# Altium schematic symbol library REB215_XPRO_Extension_Board.SCHLIB: 49 symbols
Pins are listed as number, name and electrical type; pins without a type are passive.

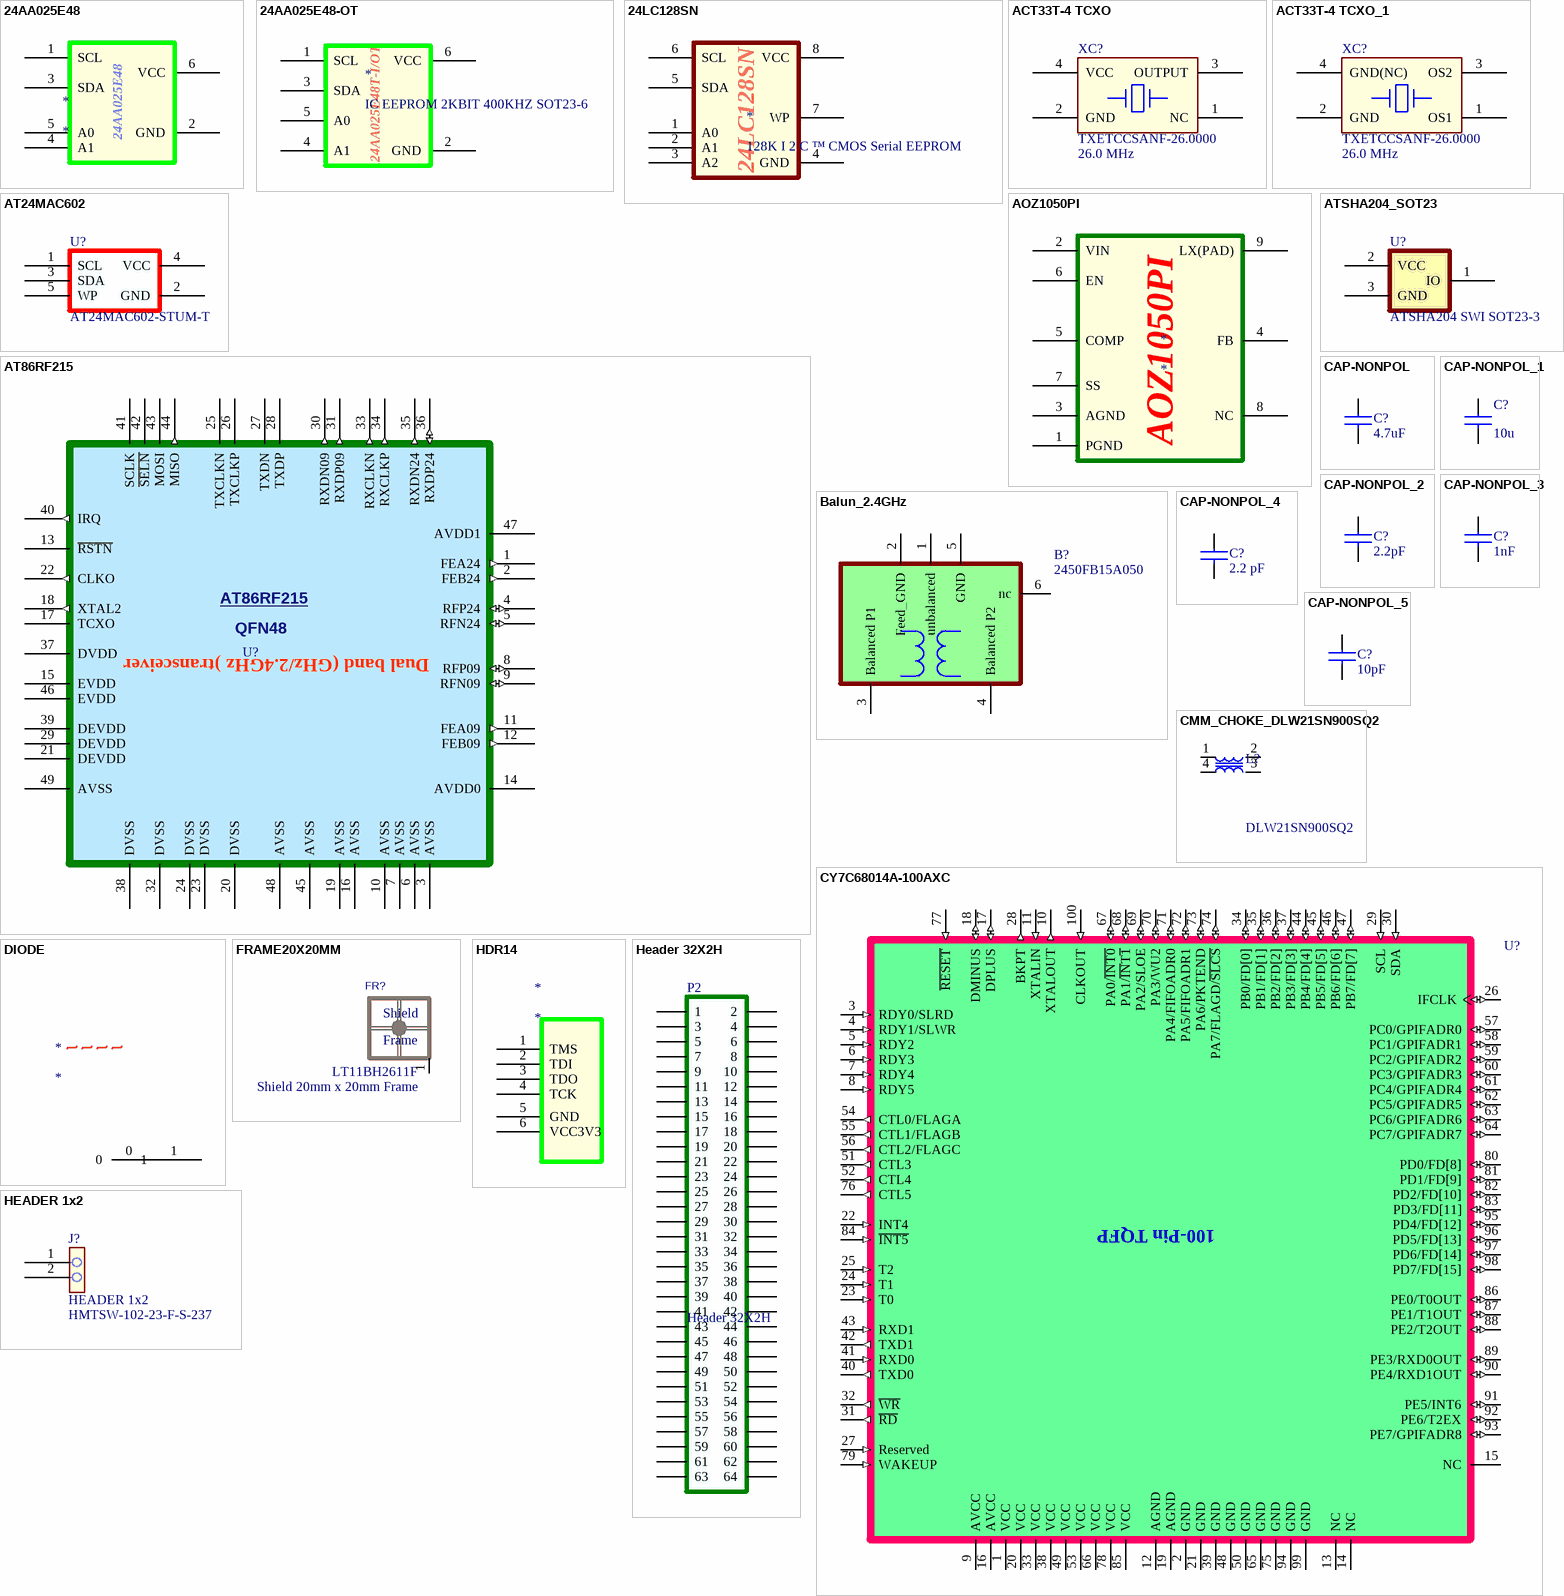
[diagram p0: symbols 24AA025E48 to Header 32X2H]

## 24AA025E48
designator *
pins: 1 SCL, 2 GND, 3 SDA, 4 A1, 5 A0, 6 VCC

## 24AA025E48-OT
designator *, comment IC EEPROM 2KBIT 400KHZ SOT23-6
pins: 1 SCL, 2 GND, 3 SDA, 4 A1, 5 A0, 6 VCC
text: 24AA025E48T-I/OT

## 24LC128SN
designator *, comment 128K I 2 C ™ CMOS Serial EEPROM
pins: 1 A0, 2 A1, 3 A2, 4 GND, 5 SDA, 6 SCL, 7 WP, 8 VCC

## ACT33T-4 TCXO
designator XC?, comment TXETCCSANF-26.0000  value 26.0 MHz
26MHz TCXO, 2.8 ~ 3.3V, Clipped sine wave 10KOhm/10pF, 3.2 x 2.5 mm SMD; PartGroup: Frequency devices,Crystals,SMD; Manufacturer: Taiway Electronics; AN: A07-0087; Tolerance: +/-2ppm; TemperatureRange: -20  to  +70Â°C; ComponentStatus: 'Active (verified)'; MPN: TXETCCSANF-26.0000; FootprintStatus: 'Active (Verified)'
footprint AP7-00060
pins: 1 NC, 2 GND, 3 OUTPUT, 4 VCC

## ACT33T-4 TCXO_1
designator XC?, comment TXETCCSANF-26.0000  value 26.0 MHz
26MHz TCXO, 2.8 ~ 3.3V, Clipped sine wave 10KOhm/10pF, 3.2 x 2.5 mm SMD; PartGroup: Frequency devices,Crystals,SMD; Manufacturer: Taiway Electronics; AN: A07-0087; Tolerance: +/-2ppm; TemperatureRange: -20  to  +70Â°C; ComponentStatus: 'Active (verified)'; MPN: TXETCCSANF-26.0000; FootprintStatus: 'Active (Verified)'
footprint AP7-00060
pins: 1 OS1, 2 GND, 3 OS2, 4 GND(NC)

## AOZ1050PI
designator *
pins: 1 PGND, 2 VIN, 3 AGND, 4 FB, 5 COMP, 6 EN, 7 SS, 8 NC, 9 LX(PAD)

## AT24MAC602
designator U?  value AT24MAC602-STUM-T  (hidden comment: AT24MAC602)
IC EEPROM 2KBIT 1MHz, 1.7V to 5.5V, SOT23-5; PartGroup: Integrated Circuits,Memory,EEPROM; Manufacturer: ATMEL; AN: A06-0871; ComponentStatus: 'Active (verified)'; Status: *; Design comment: *; Verified by: *; Verified date: *; Height: 1.10000002384186; MPN: AT24MAC602-STUM-T; FootprintStatus: 'Active (Verified)'
footprint AP6-00087
footprint AP6-00014
pins: 1 SCL, 2 GND, 3 SDA, 4 VCC, 5 WP

## AT86RF215
designator U?, comment 48 lead QFN package  (value not drawn)
Sub-1GHz/2.4GHz Transceiver; PartGroup: Integrated Circuits,Interface ICs,RF; Manufacturer: ATMEL; AN: A06-0976; Value: AT86RF215-ZU; TemperatureRange: -40Â°C to +85Â°C; ComponentStatus: 'Active (verified)'; MPN: AT86RF215-ZU; FootprintStatus: 'New (Not verified)'
footprint AP6-00345
pins: 1 FEA24 (out), 2 FEB24 (out), 3 AVSS (power), 4 RFP24 (io), 5 RFN24 (io), 6 AVSS (power), 7 AVSS (power), 8 RFP09 (io), 9 RFN09 (io), 10 AVSS (power), 11 FEA09 (out), 12 FEB09 (out), 13 ~{RSTN}, 14 AVDD0 (power), 15 EVDD (power), 16 AVSS (power), 17 TCXO, 18 XTAL2 (out), 19 AVSS (power), 20 DVSS (power), 21 DEVDD (power), 22 CLKO (out), 23 DVSS (power), 24 DVSS (power), 25 TXCLKN, 26 TXCLKP, 27 TXDN, 28 TXDP, 29 DEVDD (power), 30 RXDN09 (out), 31 RXDP09 (out), 32 DVSS (power), 33 RXCLKN (out), 34 RXCLKP (out), 35 RXDN24 (out), 36 RXDP24 (io), 37 DVDD (power), 38 DVSS (power), 39 DEVDD (power), 40 IRQ (out), 41 SCLK, 42 ~{SELN}, 43 MOSI, 44 MISO (out), 45 AVSS (power), 46 EVDD (power), 47 AVDD1 (power), 48 AVSS (power), 49 AVSS (power)
text: QFN48; Dual band (GHz/2.4GHz )transceiver

## ATSHA204_SOT23
designator U?, comment value ATSHA204 SWI SOT23-3  (hidden comment: By request from the Crypto team all new Xplained Pro designs should use the UDFN8 version of the chip instead. See A06-1276)
ATSHA204 with 1-wire interface and SOT23-3 package; PartGroup: Integrated Circuits,Special function,Encryption; Manufacturer: ATMEL; MPN: ATSHA204A-STUCZ-T; AN: A06-0571; TemperatureRange: -40Â°C to +85Â°C; ComponentStatus: 'Not for use in new designs'; Status: New; Height: 1.12000000476837; FootprintStatus: 'Active (Verified)'
footprint AP4-00018
pins: 1 IO, 2 VCC, 3 GND

## Balun_2.4GHz
designator B?  value 2450FB15A050  (hidden comment: Balun_2.4GHz)
2.45 GHz Balun / Filter Combination; PartGroup: Inductors,RF,Other RF; Manufacturer: Johanson Technology; AN: A03-0130; TemperatureRange: -40 to +85; ComponentStatus: 'Active (verified)'; Height: 1; MPN: 2450FB15A050; FootprintStatus: 'Active (Verified)'
footprint AP3-00060
pins: 1 unbalanced "50Ohm single ended", 2 Feed_GND (power) "Ground", 3 Balanced P1 "balanced port 1", 4 Balanced P2 "Balanced Port 2", 5 GND (power), 6 nc "not connected"

## CAP-NONPOL
designator C?, comment value 4.7uF  (hidden comment: Recommended by Escatec. No datasheet available yet.)
Ceramic capacitor, SMD 0402, X5R, 6.3V, +/-20% (de33687); PartGroup: Capacitors,Ceramic,SMD 0402; Manufacturer: Murata; MPN: GRM155R60J475ME87D; AN: A01-0347; Tolerance: +-20%; TemperatureRange: -55°C to +85°C; ComponentStatus: 'Active (verified)'; Status: Active; Verified by: Lars Helge Mo; Verified date: 2005-12-15; Height: 0,5; FootprintStatus: 'Active (Verified)'
footprint AP1-00001
pins: 1, 2

## CAP-NONPOL_1
designator C?, comment value 10u  (hidden comment: CAP-NONPOL)
Ceramic capacitor, SMD 1206, X5R, 6.3V, ±10%; PartGroup: Capacitors,Ceramic,SMD 1206; Manufacturer: Murata; MPN: GRM319R60J106KE19; AN: A01-0276; TemperatureRange: -55 to +125; ComponentStatus: 'Active (verified)'; Status: Active; Verified by: Lars Helge Mo; Verified date: 2005-12-15; Tolerance: ±10%; Height: 0.850000023841858; FootprintStatus: 'Active (Verified)'
footprint AP1-00026
pins: 1, 2

## CAP-NONPOL_2
designator C?, comment value 2.2pF  (hidden comment: CAP-NONPOL)
Ceramic capacitor, SMD 0402, NP0, 50V, +/-0.25pF (de23847); PartGroup: Capacitors,Ceramic,SMD 0402; Manufacturer: Murata; MPN: GRM1555C1H2R2CZ01D; AN: A01-0351; Tolerance: 0,25pF; TemperatureRange: -55ï¿½C to +125ï¿½C; ComponentStatus: 'Active (verified)'; Status: Active; Verified by: Lars Helge Mo; Verified date: 2005-12-15; FootprintStatus: 'Active (Verified)'
footprint AP1-00038
pins: 1, 2

## CAP-NONPOL_3
designator C?, comment value 1nF  (hidden comment: CAP-NONPOL)
Ceramic capacitor, SMD 0201, X7R, 10V, +/-10%; PartGroup: Capacitors,Ceramic,SMD 0201; Manufacturer: Johanson Technology; MPN: 100R05W102KV4; AN: A01-0577; ComponentStatus: 'New (not verified)'; Status: Active; Verified by: Lars Helge Mo; Verified date: 2005-12-15; FootprintStatus: 'Active (Verified)'
footprint AP1-00035
pins: 1, 2

## CAP-NONPOL_4
designator C?, comment value 2.2 pF  (hidden comment: C0G, NP0)
CAP CER 2.2PF 6.3V NP0 0201; PartGroup: Capacitors,Ceramic,SMD 0201; Manufacturer: Kemet; MPN: CBR02C229C9GAC; AN: A01-0472; Tolerance: ±0.25pF; TemperatureRange: -55°C ~ 125°C; ComponentStatus: 'Active (verified)'; Status: Active; Verified by: Lars Helge Mo; Verified date: 2005-12-15; Height: 0.300000011920929; FootprintStatus: 'Active (Verified)'
footprint AP1-00032
footprint AP1-00035 (0201_SMD)
pins: 1, 2

## CAP-NONPOL_5
designator C?, comment value 10pF  (hidden comment: High Temp version)
CAP CER 10PF 25V Â±.25pf ( and Â±.30ppm/ degree C of temp variation) NP0 0201; PartGroup: Capacitors,Ceramic,SMD 0201; Manufacturer: tdk; MPN: C0603C0G1E100C; AN: A01-0581; Tolerance: Â±20ppm to Â±50ppm; TemperatureRange: -55CÂº ~ +125ÂºC; ComponentStatus: 'Active (verified)'; Status: Active; Verified by: Lars Helge Mo; Verified date: 2005-12-15; FootprintStatus: 'Active (Verified)'
footprint AP1-00032
pins: 1, 2

## CMM_CHOKE_DLW21SN900SQ2
designator L?, comment value DLW21SN900SQ2  (hidden comment: Common Mode Choke 0805)
Sub-1GHz Balun; PartGroup: Inductors,RF,Other RF; Manufacturer: Murata; AN: A03-0131; ComponentStatus: 'Active (verified)'; Common ode hoke: DLW21SN900SQ2; MPN: DLW21SN900SQ2; FootprintStatus: 'New (Not verified)'
footprint AP3-00081
pins: 1, 2, 3, 4
1 alternate drawing of the same symbol

## CY7C68014A-100AXC
designator U?
EZ-USB FX2LP USB Microcontroller Ideal for Battery Powered Applications,16K RAM, 40 I/Os, 100-Pin TQFP, Pb-Free, Commercial Grade; Published: 16-Dec-2005; LatestRevisionDate: 13-Apr-2006; LatestRevisionNote: IPC-7351 Footprint Added.; DatasheetVersion: rev.J, Sep-2005; PackageVersion: Feb-2005; PackageReference: A101; Publisher: Altium Limited; PackageDescription: 100-Pin Thin Plastic Quad Flat Pack Rectangular 0.65 mm Pitch; ComponentLink1Description: Manufacturer Link; ComponentLink1URL: http://www.cypress.com/portal/server.pt; ComponentLink2Description: Datasheet; ComponentLink2URL: http://www.cypress.com/portal/server.pt/gateway/PTARGS_0_2_1524_209_259_43/http%3B/sjapp20.mis.cypress.com%3B7001/publishedcontent/publish/design_resources/datasheets/contents/cy7c68014a_5.pdf
footprint A101_N (Thin QFP, 100-Leads, Body 20x14mm, Pitch 0.65mm, IPC Medium Density)
footprint A101_L (Thin QFP, 100-Leads, Body 20x14mm, Pitch 0.65mm, IPC High Density)
footprint A101_M (Thin QFP, 100-Leads, Body 20x14mm, Pitch 0.65mm, IPC Low Density)
pins: 1 VCC (power), 2 GND (power), 3 RDY0/SLRD (in), 4 RDY1/SLWR (in), 5 RDY2 (in), 6 RDY3 (in), 7 RDY4 (in), 8 RDY5 (in), 9 AVCC (power), 10 XTALOUT (out), 11 XTALIN (in), 12 AGND (power), 13 NC, 14 NC, 15 NC, 16 AVCC (power), 17 DPLUS (io), 18 DMINUS (io), 19 AGND (power), 20 VCC (power), 21 GND (power), 22 INT4 (in), 23 T0 (in), 24 T1 (in), 25 T2 (in), 26 IFCLK (io), 27 Reserved (in), 28 BKPT (out), 29 SCL (in), 30 SDA (in), 31 ~{RD} (out), 32 ~{WR} (out), 33 VCC (power), 34 PB0/FD[0] (io) "Port B", 35 PB1/FD[1] (io) "Port B", 36 PB2/FD[2] (io) "Port B", 37 PB3/FD[3] (io) "Port B", 38 VCC (power), 39 GND (power), 40 TXD0 (out), 41 RXD0 (in), 42 TXD1 (out), 43 RXD1 (in), 44 PB4/FD[4] (io) "Port B", 45 PB5/FD[5] (io) "Port B", 46 PB6/FD[6] (io) "Port B", 47 PB7/FD[7] (io) "Port B", 48 GND (power), 49 VCC (power), 50 GND (power), 51 CTL3 (out), 52 CTL4 (out), 53 VCC (power), 54 CTL0/FLAGA (out), 55 CTL1/FLAGB (out), 56 CTL2/FLAGC (out), 57 PC0/GPIFADR0 (io) "Port C", 58 PC1/GPIFADR1 (io) "Port C", 59 PC2/GPIFADR2 (io) "Port C", 60 PC3/GPIFADR3 (io) "Port C", 61 PC4/GPIFADR4 (io) "Port C", 62 PC5/GPIFADR5 (io) "Port C", 63 PC6/GPIFADR6 (io) "Port C", 64 PC7/GPIFADR7 (io) "Port C", 65 GND (power), 66 VCC (power), 67 PA0/~{INT0} (io) "Port A", 68 PA1/~{IN}T~{1} (io) "Port A", 69 PA2/SLOE (io) "Port A", 70 PA3/WU2 (io) "Port A", 71 PA4/FIFOADR0 (io) "Port A", 72 PA5/FIFOADR1 (io) "Port A", 73 PA6/PKTEND (io) "Port A", 74 PA7/FLAGD/~{SLCS} (io) "Port A", 75 GND (power), 76 CTL5 (out), 77 ~{RESET} (in), 78 VCC (power), 79 WAKEUP (in), 80 PD0/FD[8] (io) "Port D", 81 PD1/FD[9] (io) "Port D", 82 PD2/FD[10] (io) "Port D", 83 PD3/FD[11] (io) "Port D", 84 ~{INT5} (in), 85 VCC (power), 86 PE0/T0OUT (io) "Port E", 87 PE1/T1OUT (io) "Port E", 88 PE2/T2OUT (io) "Port E", 89 PE3/RXD0OUT (io) "Port E", 90 PE4/RXD1OUT (io) "Port E", 91 PE5/INT6 (io) "Port E", 92 PE6/T2EX (io) "Port E", 93 PE7/GPIFADR8 (io) "Port E", 94 GND (power), 95 PD4/FD[12] (io) "Port D", 96 PD5/FD[13] (io) "Port D", 97 PD6/FD[14] (io) "Port D", 98 PD7/FD[15] (io) "Port D", 99 GND (power), 100 CLKOUT (in)
text: 100-Pin TQFP

## DIODE
designator *
pins: 0, 1

## FRAME20X20MM
designator FR?, comment Shield 20mm x 20mm Frame  value LT11BH2611F
SMD frame for metal shield 20mm x 20mm (de34031); PartGroup: Mechanical devices,Enclosures,EMI shielding; Manufacturer: Laird Technologies; AN: A08-1821; ComponentStatus: 'New (not verified)'; Height: 3; MPN: LT11BH2611F; FootprintStatus: 'New (Not verified)'
footprint AP8-00753
pins: 1 GND
text: Shield; Frame

## HDR14
designator *
pins: 1 TMS, 2 TDI, 3 TDO, 4 TCK, 5 GND, 6 VCC3V3

## HEADER 1x2
designator J?  value HMTSW-102-23-F-S-237
1x2 pin header, 2.54mm pitch, Pin-in-Paste THM; PartGroup: Mechanical devices,Connectors,Pin headers; Manufacturer: SAMTEC; AN: A08-1754; TemperatureRange: - 55 deg C to + 125 deg C; ComponentStatus: 'Active (verified)'; Verified date: 2006-01-30; Verified by: Lars Helge; Status: Active; Height: 6.09999990463257; MPN: HMTSW-102-23-F-S-237; FootprintStatus: 'Active (Verified)'
footprint AP8-00733
pins: 1, 2

## Header 32X2H
designator P2
Header, 32-Pin, Dual row, Right Angle; LatestRevisionDate: 17-Jul-2002; LatestRevisionNote: Re-released for DXP Platform.; Publisher: Altium Limited
footprint HDR2X20H (Connector; Header; 20x2 Position; Right Angle)
signal-integrity model Connector
pins: 1, 2, 3, 4, 5, 6, 7, 8, 9, 10, 11, 12, 13, 14, 15, 16, 17, 18, 19, 20, 21, 22, 23, 24, 25, 26, 27, 28, 29, 30, 31, 32, 33, 34, 35, 36, 37, 38, 39, 40, 41, 42, 43, 44, 45, 46, 47, 48, 49, 50, 51, 52, 53, 54, 55, 56, 57, 58, 59, 60, 61, 62, 63, 64

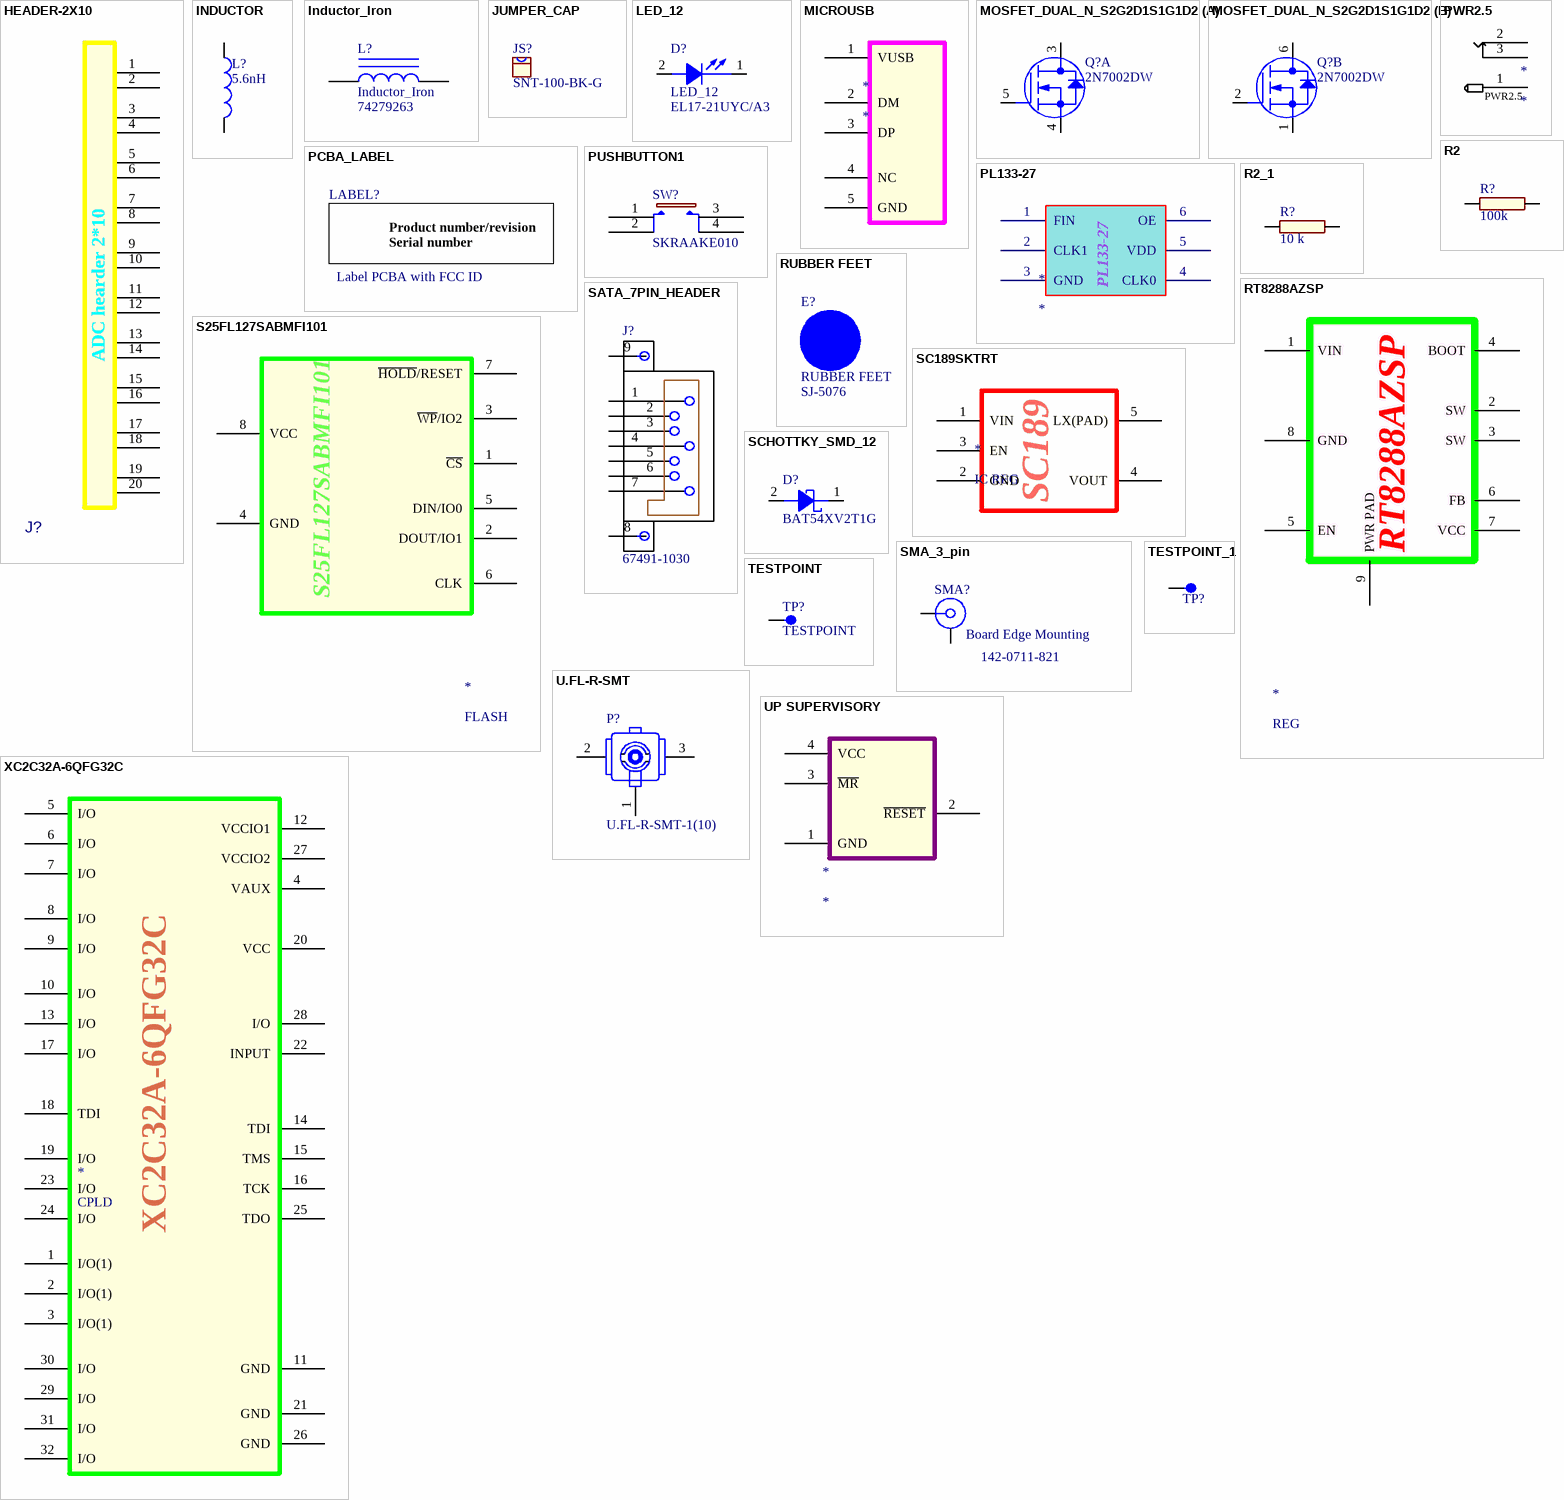
[diagram p1: symbols HEADER-2X10 to XC2C32A-6QFG32C]

## HEADER-2X10
designator J?  (value not drawn)
2x10, female pin header receptable, right-angled, 2.54mm pitch, THM, Pin In Paste; PartGroup: Mechanical devices,Connectors,Pin header receptacle; Manufacturer: Pro-data International Corp; MPN: F201-2*10RGF-W2-NF; AN: A08-1512; ComponentStatus: 'Active (verified)'; Verified by: *; Verified date: *; Height: 5.07999992370605; FootprintStatus: 'Active (Verified)'
footprint AP8-00621
pins: 1, 2, 3, 4, 5, 6, 7, 8, 9, 10, 11, 12, 13, 14, 15, 16, 17, 18, 19, 20
text: ADC hearder 2*10

## INDUCTOR
designator L?, comment value 5.6nH  (hidden comment: ceramic chip inductor, 5.6nH, 0201)
PartGroup: Inductors,RF,SMD 0201; Manufacturer: Johanson Technology; MPN: L-05B5N6SV6T; AN: A03-0150; Tolerance: ±0.3nH; TemperatureRange: -40°C ~ 100°C; ComponentStatus: 'Active (verified)'; Verified date: 2006-01-30; Verified by: Lars Helge Mo; Status: Active; FootprintStatus: 'Active (Verified)'
footprint AP3-00041
pins: 1, 2

## Inductor_Iron
designator L?  value 74279263
SMD-Ferrite 220Ohm, 100MHz 0603 size, (de14411); PartGroup: Inductors,EMI; Manufacturer: Würth Elektronik; AN: A03-0072; TemperatureRange: -55 - +125 deg C; ComponentStatus: 'Active (verified)'; MPN: 74279263; FootprintStatus: 'Active (Verified)'
footprint AP3-00049
pins: 1, 2

## JUMPER_CAP
designator JS?, comment value SNT-100-BK-G  (hidden comment: To be used by request from ESCATEC)
Jumper cap for 2.54mm pinheader; PartGroup: Mechanical devices,Mounting accessories,Other; Manufacturer: SAMTEC; AN: A08-0543; ComponentStatus: 'Active (verified)'; Verified date: 2006-04-05; Verified by: Lars Helge Mo; Status: Active; MPN: SNT-100-BK-G; FootprintStatus: 'Active (Verified)'
footprint AP8-00525

## LED_12
designator D?  value EL17-21UYC/A3
LED, Yellow, Wave length=591nm, SMD 0805, ±70°; PartGroup: Opto,LEDs,SMD; Manufacturer: Everlight; MPN: 17-21UYC/S530-A3/TR8; AN: A10-0019; TemperatureRange: -40 to +85 deg C; ComponentStatus: 'Active (verified)'; Verified date: 2006-02-17; Verified by: Sveinung Helgeland; Status: Active; Height: 1.10000002384186; FootprintStatus: 'Active (Verified)'
footprint AP4-00013
pins: 1 CATHODE, 2 ANODE

## MICROUSB
designator *
pins: 1 VUSB, 2 DM, 3 DP, 4 NC, 5 GND

## MOSFET_DUAL_N_S2G2D1S1G1D2
designator Q?, comment value 2N7002DW  (hidden comment: Same as 2N7002 but with two MOSFETs in one package)
Dual N-Channel MOSFET, 60V, 115mA cont,RDS(ON) < 7.5 Ohm @50mA@5V, SOT-363; PartGroup: Transistors,Small signal FET,SMD; Manufacturer: Fairchild; AN: A05-0051; TemperatureRange: -65 to 150 deg C; ComponentStatus: 'Active (verified)'; Status: New; Height: 1.10000002384186; MPN: 2N7002DW; FootprintStatus: 'Active (Verified)'
footprint AP5-00001
part A pins: 3 D1, 4 S1, 5 G1
part B pins: 1 S2, 2 G2, 6 D2

## PCBA_LABEL
designator LABEL?, comment Label PCBA with FCC ID  (mechanical)
Label for use on wireless PCBA that needs FCC ID; PartGroup: Mechanical devices,Packaging materials,Printed Labels; AN: A08-2246; ComponentStatus: 'Active (verified)'; FootprintStatus: 'Active (Verified)'
footprint AP8-00317
text: / Product number/revision / Serial number

## PL133-27
designator *
1:2 FANOUT BUFFER IC
pins: 1 FIN, 2 CLK1, 3 GND, 4 CLK0, 5 VDD, 6 OE

## PUSHBUTTON1
designator SW?, comment value SKRAAKE010  (hidden comment: same as A08-0091 but less force is needed; Can be ordered in low volumes from Mouser)
SWITCH, SMD, 2.45N, 6.2mm X 6.2mm; PartGroup: Mechanical devices,Switches,SMD; Manufacturer: ALPS; AN: A08-0790; TemperatureRange: -30 - +90 deg C; ComponentStatus: 'Active (verified)'; Status: Active; Verified by: Ketil Skjerve; Verified date: 2006-03-15; Height: 5.09999990463257; MPN: SKRAAKE010; FootprintStatus: 'Active (Verified)'
footprint AP8-00137
pins: 1, 2, 3, 4

## PWR2.5
designator *
pins: 1, 2, 3

## R2
designator R?  value 100k  (hidden comment: R2)
Thick film resistor, SMD 0402, 1/16W, 1%; PartGroup: Resistors,SMD,0402 1%; AN: A02-0260; TemperatureRange: -55 - +125 deg C; ComponentStatus: 'Active (verified)'; Status: Active; Verified by: Lars Helge Mo; Verified date: 2005-12-19; Tolerance: 1 %; Height: 0,349999994039536; FootprintStatus: 'Active (Verified)'
footprint AP2-00000
pins: 1, 2

## R2_1
designator R?, comment value 10 k  (hidden comment: Copy of A02-0535)
Thick film resistor, SMD 0201, 1/20W, 5%; PartGroup: Resistors,SMD,0201 5%; Manufacturer: ROHM; MPN: MCR006YZPJ103+; AN: A02-0541; ComponentStatus: 'Active (verified)'; Status: Active; Verified by: Lars Helge Mo; Verified date: 2005-12-19; Tolerance: 5%; FootprintStatus: 'Active (Verified)'
footprint AP2-00028
pins: 1, 2

## RT8288AZSP
designator *, comment REG
IC REG BUCK ADJ 4A SYNC 8SOP
pins: 1 VIN, 2 SW, 3 SW, 4 BOOT, 5 EN, 6 FB, 7 VCC, 8 GND, 9 PWR PAD

## RUBBER FEET
designator E?  value SJ-5076
2.8mm adhesive feet,diam 8.0mm; PartGroup: Mechanical devices,Mounting accessories; Manufacturer: 3M; AN: A08-0053; ComponentStatus: 'Active (verified)'; Verified date: 2006-05-05; Verified by: Ketil Skjerve; Status: Active; Height: 2.79999995231628; MPN: SJ-5076; FootprintStatus: 'Active (Verified)'
footprint AP8-00192
pins: 1 FIDUCIAL

## S25FL127SABMFI101
designator *, comment FLASH
IC FLASH 128MBIT 108MHZ 8SOIC
pins: 1 ~{CS}, 2 DOUT/IO1, 3 ~{WP}/IO2, 4 GND, 5 DIN/IO0, 6 CLK, 7 ~{HOLD}/RESET, 8 VCC

## SATA_7PIN_HEADER
designator J?  value 67491-1030  (hidden comment: SATA_7PIN_HEADER)
1.27mm Pitch Serial ATA High Speed Header, Through Hole, Vertical, 7 Circuits; PartGroup: Mechanical devices,Connectors,Memory cards; Manufacturer: Molex; AN: A08-1789; ComponentStatus: 'Active (verified)'; Status: Valid; Verified by: vlarsen; Verified date: 2011-06-01; Height: 8.39999961853027; MPN: 67491-1030; FootprintStatus: 'New (Not verified)'
footprint AP8-00746
pins: 1, 2, 3, 4, 5, 6, 7, 8, 9

## SC189SKTRT
designator *, comment IC REG
IC REG BUCK 1.8V 1.5A SYNC SOT23
pins: 1 VIN, 2 GND, 3 EN, 4 VOUT, 5 LX(PAD)
text: SC189

## SCHOTTKY_SMD_12
designator D?, comment value BAT54XV2T1G  (hidden comment: Farnell# 1615809)
Schottky diode, If:200mA, Vf:0.35V, Vrrm:30V, SOD-523; PartGroup: Diodes,Schottky; Manufacturer: ON Semiconductor; AN: A04-0049; TemperatureRange: -55°C to +125°C; ComponentStatus: 'Active (verified)'; Verified date: 2006-02-07; Verified by: Ketil Skjerve; Status: Active; Height: 0.699999988079071; MPN: BAT54XV2T1G; FootprintStatus: 'Active (Verified)'
footprint AP4-00036
pins: 1 CATHODE, 2 ANODE

## SMA_3_pin
designator SMA?, comment Board Edge Mounting  value 142-0711-821
End Launch Jack Receptacle, Round Contact (de21535); Manufacturer: EMERSON; PartGroup: Mechanical devices,Connectors,Coaxial; Art.-Nr.: 21535; AN: A08-1047; ComponentStatus: 'Active (verified)'; Manuf.Part#: 142-0711-821; MPN: 142-0711-821; FootprintStatus: 'New (Not verified)'
footprint AP8-00443 (Footprint not found)
pins: 1, 2, 2.1

## TESTPOINT
designator TP?  (no BOM)
Single SMD testpad; PartGroup: Mechanical devices,Other; AN: A08-0892; ComponentStatus: 'New (not verified)'; Status: Active; Verified by: Sveinung Helgeland; Verified date: 2006-02-17; Value: Test Pad; Height: 0; FootprintStatus: 'Active (Verified)'
footprint AP8-00399
pins: 1

## TESTPOINT_1
designator TP?, comment Mounting hole dia should be 1.6mm. Refer A08-2059  (value not drawn)  (no BOM)
THM Test Point, Without Base, 1.0mm Dia. Mounting; PartGroup: Mechanical devices,Other; Manufacturer: Keystone Corp.; AN: A08-1716; Value: 5012; ComponentStatus: 'Obsolete'; Status: Active; Verified by: Sveinung Helgeland; Verified date: 2006-02-17; Height: 2.5; MPN: 5012; FootprintStatus: 'New (Not verified)'
footprint AP8-00710
pins: 1

## U.FL-R-SMT
designator P?, comment value U.FL-R-SMT-1(10)  (hidden comment: Copy of A08-0629)
UFL (Small Coax Connector); PartGroup: Mechanical devices,Connectors,Coaxial; Manufacturer: HIROSE; AN: A08-0838; ComponentStatus: 'Active (verified)'; Height: 1.25; MPN: U.FL-R-SMT-1(10); FootprintStatus: 'Active (Verified)'
footprint AP8-00380 (UFL (Hirose Small Coax Receptacle))
pins: 1 SIG, 2 GND (power), 3 GND (power)

## UP SUPERVISORY
designator *
pins: 1 GND, 2 ~{RESET}, 3 ~{MR}, 4 VCC

## XC2C32A-6QFG32C
designator *, comment CPLD
IC CPLD 32MC 5.5NS 32QFN
pins: 1 I/O(1), 2 I/O(1), 3 I/O(1), 4 VAUX, 5 I/O, 6 I/O, 7 I/O, 8 I/O, 9 I/O, 10 I/O, 11 GND, 12 VCCIO1, 13 I/O, 14 TDI, 15 TMS, 16 TCK, 17 I/O, 18 TDI, 19 I/O, 20 VCC, 21 GND, 22 INPUT, 23 I/O, 24 I/O, 25 TDO, 26 GND, 27 VCCIO2, 28 I/O, 29 I/O, 30 I/O, 31 I/O, 32 I/O

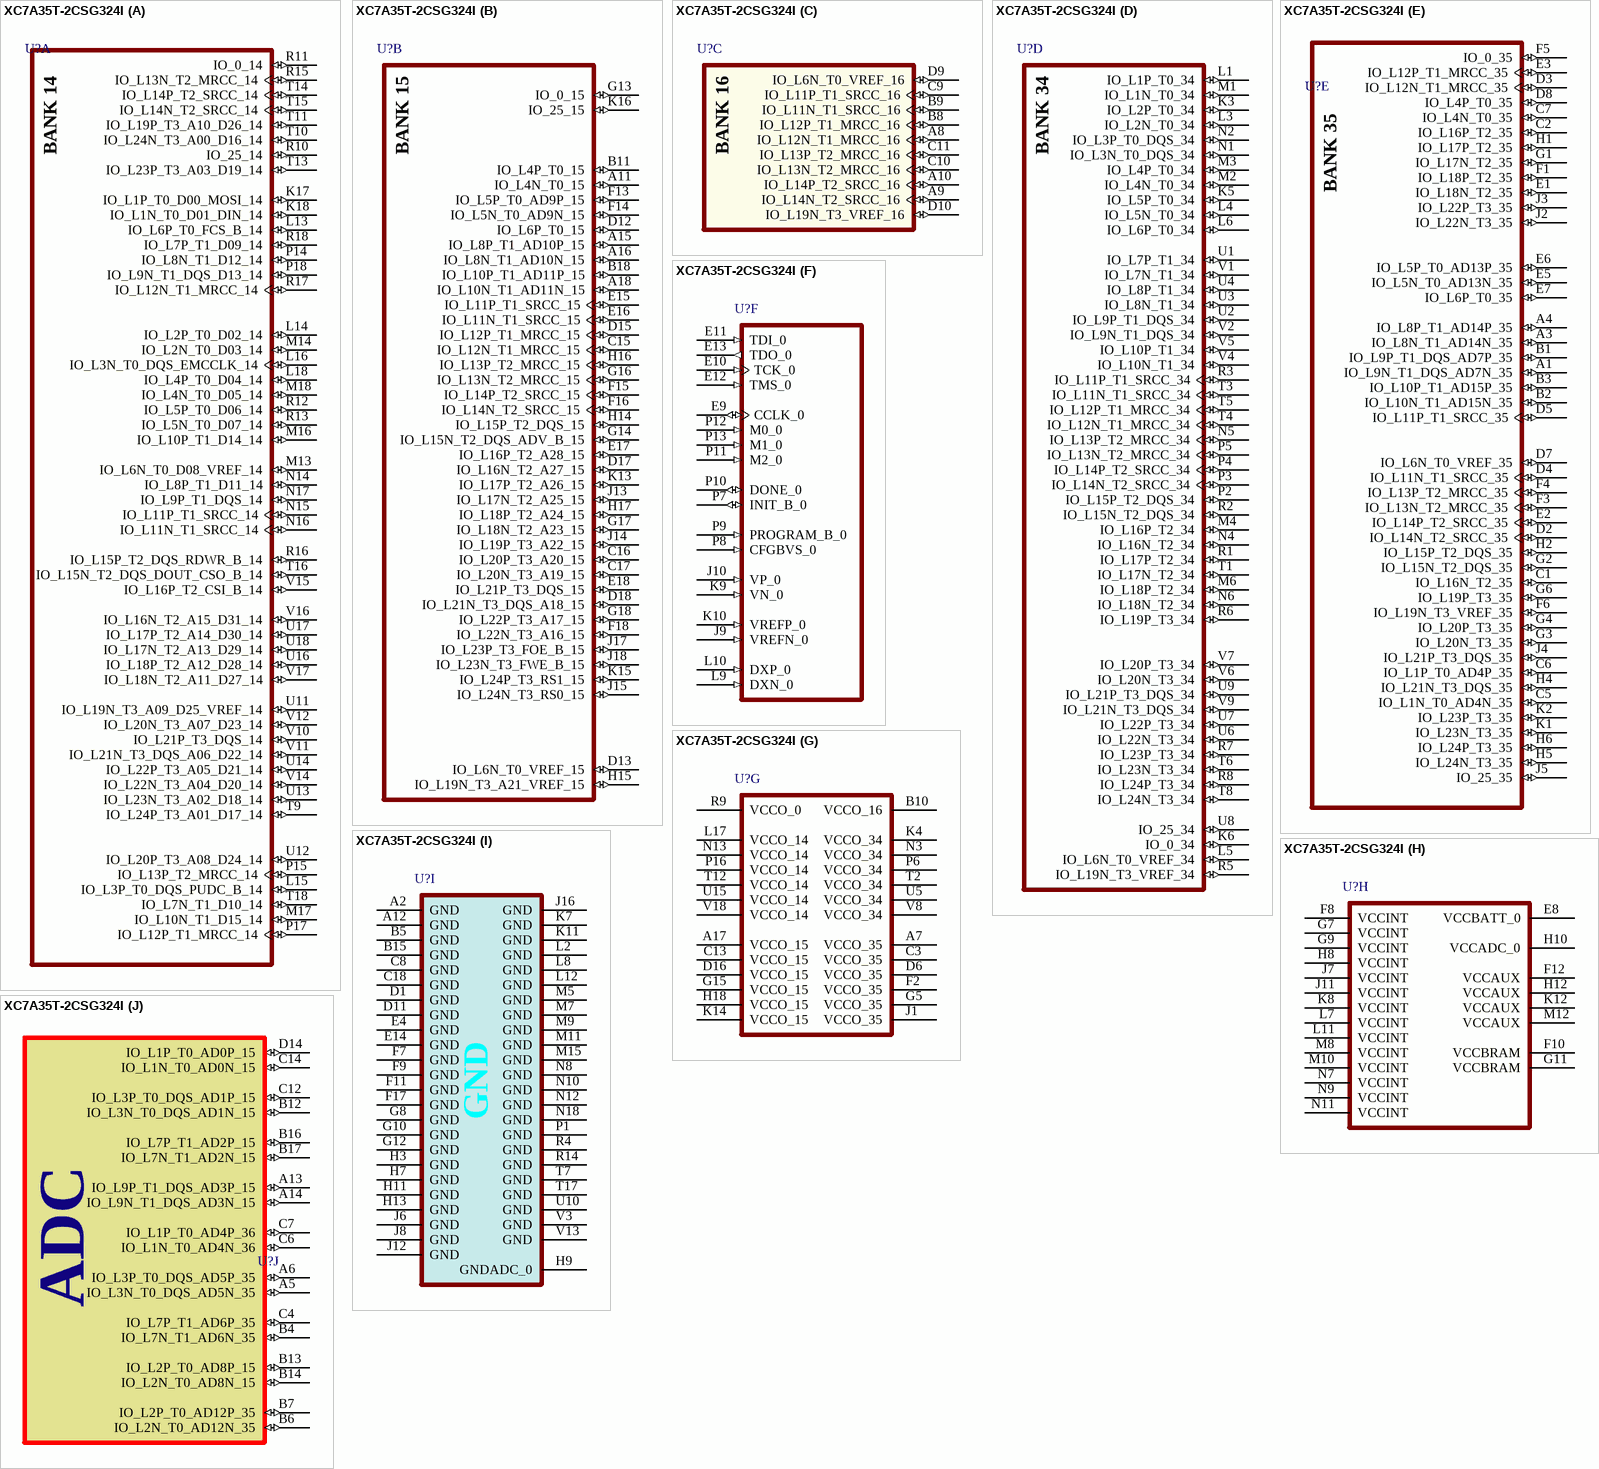
[diagram p2: symbol XC7A35T-2CSG324I]

## XC7A35T-2CSG324I
designator U?
Artix-7 FPGA, 210 User I/Os, 0 GTP, 324-Ball BGA, Speed Grade 2, Industrial Grade, Pb-Free; Manufacturer: Xilinx; Total Block RAM: 1800 Kb; GTP: 0; Clock Mgmt Tiles (CMTs): 5; Logic Cells: 33280; Available User I/O: 210; Speed Grades: 2; NexusDeviceID: XC7A35T-2CSG324I; DatasheetVersion: v1.15; PackageVersion: Rev. 1.11; PackageReference: CSG-324; PackageDescription: 324-Ball Wire-Bond Chip-Scale BGA, Body 15 x 15 mm, Pitch 0.8 mm; Maximum Distributed RAM: 400 Kb; Operating Temperature Range: Industrial; Mounting Technology: Surface Mount; PartNumber: XC7A35T-2CSG324I; ComponentLink1Description: Manufacturer URL; ComponentLink1URL: http://www.xilinx.com/; ComponentLink2Description: Datasheet; ComponentLink2URL: http://www.xilinx.com/support/documentation/data_sheets/ds180_7Series_Overview.pdf; ComponentLink3Description: Package Specification; ComponentLink3URL: http://www.xilinx.com/support/documentation/user_guides/ug475_7Series_Pkg_Pinout.pdf; ComponentLink4Description: DC and Switching Characteristics; ComponentLink4URL: http://www.xilinx.com/support/documentation/data_sheets/ds181_Artix_7_Data_Sheet.pdf; ComponentLink5Description: Package File; ComponentLink5URL: http://www.xilinx.com/support/packagefiles/a7packages/xc7a200tsbg484pkg.txt; ComponentLink6Description: Packaging and Pinout; ComponentLink6URL: http://www.xilinx.com/support/documentation/user_guides/ug475_7Series_Pkg_Pinout.pdf
footprint CSG324 (BGA, 324-Balls, Body 15x15mm, Pitch 0.8mm)
part A pins: K17 IO_L1P_T0_D00_MOSI_14 (io), K18 IO_L1N_T0_D01_DIN_14 (io), L13 IO_L6P_T0_FCS_B_14 (io), L14 IO_L2P_T0_D02_14 (io), L15 IO_L3P_T0_DQS_PUDC_B_14 (io), L16 IO_L3N_T0_DQS_EMCCLK_14 (io), L18 IO_L4P_T0_D04_14 (io), M13 IO_L6N_T0_D08_VREF_14 (io), M14 IO_L2N_T0_D03_14 (io), M16 IO_L10P_T1_D14_14 (io), M17 IO_L10N_T1_D15_14 (io), M18 IO_L4N_T0_D05_14 (io), N14 IO_L8P_T1_D11_14 (io), N15 IO_L11P_T1_SRCC_14 (io), N16 IO_L11N_T1_SRCC_14 (io), N17 IO_L9P_T1_DQS_14 (io), P14 IO_L8N_T1_D12_14 (io), P15 IO_L13P_T2_MRCC_14 (io), P17 IO_L12P_T1_MRCC_14 (io), P18 IO_L9N_T1_DQS_D13_14 (io), R10 IO_25_14 (io), R11 IO_0_14 (io), R12 IO_L5P_T0_D06_14 (io), R13 IO_L5N_T0_D07_14 (io), R15 IO_L13N_T2_MRCC_14 (io), R16 IO_L15P_T2_DQS_RDWR_B_14 (io), R17 IO_L12N_T1_MRCC_14 (io), R18 IO_L7P_T1_D09_14 (io), T9 IO_L24P_T3_A01_D17_14 (io), T10 IO_L24N_T3_A00_D16_14 (io), T11 IO_L19P_T3_A10_D26_14 (io), T13 IO_L23P_T3_A03_D19_14 (io), T14 IO_L14P_T2_SRCC_14 (io), T15 IO_L14N_T2_SRCC_14 (io), T16 IO_L15N_T2_DQS_DOUT_CSO_B_14 (io), T18 IO_L7N_T1_D10_14 (io), U11 IO_L19N_T3_A09_D25_VREF_14 (io), U12 IO_L20P_T3_A08_D24_14 (io), U13 IO_L23N_T3_A02_D18_14 (io), U14 IO_L22P_T3_A05_D21_14 (io), U16 IO_L18P_T2_A12_D28_14 (io), U17 IO_L17P_T2_A14_D30_14 (io), U18 IO_L17N_T2_A13_D29_14 (io), V10 IO_L21P_T3_DQS_14 (io), V11 IO_L21N_T3_DQS_A06_D22_14 (io), V12 IO_L20N_T3_A07_D23_14 (io), V14 IO_L22N_T3_A04_D20_14 (io), V15 IO_L16P_T2_CSI_B_14 (io), V16 IO_L16N_T2_A15_D31_14 (io), V17 IO_L18N_T2_A11_D27_14 (io)
part B pins: A11 IO_L4N_T0_15 (io), A15 IO_L8P_T1_AD10P_15 (io), A16 IO_L8N_T1_AD10N_15 (io), A18 IO_L10N_T1_AD11N_15 (io), B11 IO_L4P_T0_15 (io), B18 IO_L10P_T1_AD11P_15 (io), C15 IO_L12N_T1_MRCC_15 (io), C16 IO_L20P_T3_A20_15 (io), C17 IO_L20N_T3_A19_15 (io), D12 IO_L6P_T0_15 (io), D13 IO_L6N_T0_VREF_15 (io), D15 IO_L12P_T1_MRCC_15 (io), D17 IO_L16N_T2_A27_15 (io), D18 IO_L21N_T3_DQS_A18_15 (io), E15 IO_L11P_T1_SRCC_15 (io), E16 IO_L11N_T1_SRCC_15 (io), E17 IO_L16P_T2_A28_15 (io), E18 IO_L21P_T3_DQS_15 (io), F13 IO_L5P_T0_AD9P_15 (io), F14 IO_L5N_T0_AD9N_15 (io), F15 IO_L14P_T2_SRCC_15 (io), F16 IO_L14N_T2_SRCC_15 (io), F18 IO_L22N_T3_A16_15 (io), G13 IO_0_15 (io), G14 IO_L15N_T2_DQS_ADV_B_15 (io), G16 IO_L13N_T2_MRCC_15 (io), G17 IO_L18N_T2_A23_15 (io), G18 IO_L22P_T3_A17_15 (io), H14 IO_L15P_T2_DQS_15 (io), H15 IO_L19N_T3_A21_VREF_15 (io), H16 IO_L13P_T2_MRCC_15 (io), H17 IO_L18P_T2_A24_15 (io), J13 IO_L17N_T2_A25_15 (io), J14 IO_L19P_T3_A22_15 (io), J15 IO_L24N_T3_RS0_15 (io), J17 IO_L23P_T3_FOE_B_15 (io), J18 IO_L23N_T3_FWE_B_15 (io), K13 IO_L17P_T2_A26_15 (io), K15 IO_L24P_T3_RS1_15 (io), K16 IO_25_15 (io)
part C pins: A8 IO_L12N_T1_MRCC_16 (io), A9 IO_L14N_T2_SRCC_16 (io), A10 IO_L14P_T2_SRCC_16 (io), B8 IO_L12P_T1_MRCC_16 (io), B9 IO_L11N_T1_SRCC_16 (io), C9 IO_L11P_T1_SRCC_16 (io), C10 IO_L13N_T2_MRCC_16 (io), C11 IO_L13P_T2_MRCC_16 (io), D9 IO_L6N_T0_VREF_16 (io), D10 IO_L19N_T3_VREF_16 (io)
part D pins: K3 IO_L2P_T0_34 (io), K5 IO_L5P_T0_34 (io), K6 IO_0_34 (io), L1 IO_L1P_T0_34 (io), L3 IO_L2N_T0_34 (io), L4 IO_L5N_T0_34 (io), L5 IO_L6N_T0_VREF_34 (io), L6 IO_L6P_T0_34 (io), M1 IO_L1N_T0_34 (io), M2 IO_L4N_T0_34 (io), M3 IO_L4P_T0_34 (io), M4 IO_L16P_T2_34 (io), M6 IO_L18P_T2_34 (io), N1 IO_L3N_T0_DQS_34 (io), N2 IO_L3P_T0_DQS_34 (io), N4 IO_L16N_T2_34 (io), N5 IO_L13P_T2_MRCC_34 (io), N6 IO_L18N_T2_34 (io), P2 IO_L15P_T2_DQS_34 (io), P3 IO_L14N_T2_SRCC_34 (io), P4 IO_L14P_T2_SRCC_34 (io), P5 IO_L13N_T2_MRCC_34 (io), R1 IO_L17P_T2_34 (io), R2 IO_L15N_T2_DQS_34 (io), R3 IO_L11P_T1_SRCC_34 (io), R5 IO_L19N_T3_VREF_34 (io), R6 IO_L19P_T3_34 (io), R7 IO_L23P_T3_34 (io), R8 IO_L24P_T3_34 (io), T1 IO_L17N_T2_34 (io), T3 IO_L11N_T1_SRCC_34 (io), T4 IO_L12N_T1_MRCC_34 (io), T5 IO_L12P_T1_MRCC_34 (io), T6 IO_L23N_T3_34 (io), T8 IO_L24N_T3_34 (io), U1 IO_L7P_T1_34 (io), U2 IO_L9P_T1_DQS_34 (io), U3 IO_L8N_T1_34 (io), U4 IO_L8P_T1_34 (io), U6 IO_L22N_T3_34 (io), U7 IO_L22P_T3_34 (io), U8 IO_25_34 (io), U9 IO_L21P_T3_DQS_34 (io), V1 IO_L7N_T1_34 (io), V2 IO_L9N_T1_DQS_34 (io), V4 IO_L10N_T1_34 (io), V5 IO_L10P_T1_34 (io), V6 IO_L20N_T3_34 (io), V7 IO_L20P_T3_34 (io), V9 IO_L21N_T3_DQS_34 (io)
part E pins: A1 IO_L9N_T1_DQS_AD7N_35 (io), A3 IO_L8N_T1_AD14N_35 (io), A4 IO_L8P_T1_AD14P_35 (io), B1 IO_L9P_T1_DQS_AD7P_35 (io), B2 IO_L10N_T1_AD15N_35 (io), B3 IO_L10P_T1_AD15P_35 (io), C1 IO_L16N_T2_35 (io), C2 IO_L16P_T2_35 (io), C5 IO_L1N_T0_AD4N_35 (io), C6 IO_L1P_T0_AD4P_35 (io), C7 IO_L4N_T0_35 (io), D2 IO_L14N_T2_SRCC_35 (io), D3 IO_L12N_T1_MRCC_35 (io), D4 IO_L11N_T1_SRCC_35 (io), D5 IO_L11P_T1_SRCC_35 (io), D7 IO_L6N_T0_VREF_35 (io), D8 IO_L4P_T0_35 (io), E1 IO_L18N_T2_35 (io), E2 IO_L14P_T2_SRCC_35 (io), E3 IO_L12P_T1_MRCC_35 (io), E5 IO_L5N_T0_AD13N_35 (io), E6 IO_L5P_T0_AD13P_35 (io), E7 IO_L6P_T0_35 (io), F1 IO_L18P_T2_35 (io), F3 IO_L13N_T2_MRCC_35 (io), F4 IO_L13P_T2_MRCC_35 (io), F5 IO_0_35 (io), F6 IO_L19N_T3_VREF_35 (io), G1 IO_L17N_T2_35 (io), G2 IO_L15N_T2_DQS_35 (io), G3 IO_L20N_T3_35 (io), G4 IO_L20P_T3_35 (io), G6 IO_L19P_T3_35 (io), H1 IO_L17P_T2_35 (io), H2 IO_L15P_T2_DQS_35 (io), H4 IO_L21N_T3_DQS_35 (io), H5 IO_L24N_T3_35 (io), H6 IO_L24P_T3_35 (io), J2 IO_L22N_T3_35 (io), J3 IO_L22P_T3_35 (io), J4 IO_L21P_T3_DQS_35 (io), J5 IO_25_35 (io), K1 IO_L23N_T3_35 (io), K2 IO_L23P_T3_35 (io)
part F pins: E9 CCLK_0 (io), E10 TCK_0 (in), E11 TDI_0 (in), E12 TMS_0 (in), E13 TDO_0 (out), J9 VREFN_0 (in), J10 VP_0 (in), K9 VN_0 (in), K10 VREFP_0 (in), L9 DXN_0 (in), L10 DXP_0 (in), P7 INIT_B_0 (io), P8 CFGBVS_0 (in), P9 PROGRAM_B_0 (in), P10 DONE_0 (io), P11 M2_0 (in), P12 M0_0 (in), P13 M1_0 (in)
part G pins: A7 VCCO_35 (power), A17 VCCO_15 (power), B10 VCCO_16 (power), C3 VCCO_35 (power), C13 VCCO_15 (power), D6 VCCO_35 (power), D16 VCCO_15 (power), F2 VCCO_35 (power), G5 VCCO_35 (power), G15 VCCO_15 (power), H18 VCCO_15 (power), J1 VCCO_35 (power), K4 VCCO_34 (power), K14 VCCO_15 (power), L17 VCCO_14 (power), N3 VCCO_34 (power), N13 VCCO_14 (power), P6 VCCO_34 (power), P16 VCCO_14 (power), R9 VCCO_0 (power), T2 VCCO_34 (power), T12 VCCO_14 (power), U5 VCCO_34 (power), U15 VCCO_14 (power), V8 VCCO_34 (power), V18 VCCO_14 (power)
part H pins: E8 VCCBATT_0 (power), F8 VCCINT (power), F10 VCCBRAM (power), F12 VCCAUX (power), G7 VCCINT (power), G9 VCCINT (power), G11 VCCBRAM (power), H8 VCCINT (power), H10 VCCADC_0 (power), H12 VCCAUX (power), J7 VCCINT (power), J11 VCCINT (power), K8 VCCINT (power), K12 VCCAUX (power), L7 VCCINT (power), L11 VCCINT (power), M8 VCCINT (power), M10 VCCINT (power), M12 VCCAUX (power), N7 VCCINT (power), N9 VCCINT (power), N11 VCCINT (power)
part I pins: A2 GND (power), A12 GND (power), B5 GND (power), B15 GND (power), C8 GND (power), C18 GND (power), D1 GND (power), D11 GND (power), E4 GND (power), E14 GND (power), F7 GND (power), F9 GND (power), F11 GND (power), F17 GND (power), G8 GND (power), G10 GND (power), G12 GND (power), H3 GND (power), H7 GND (power), H9 GNDADC_0 (power), H11 GND (power), H13 GND (power), J6 GND (power), J8 GND (power), J12 GND (power), J16 GND (power), K7 GND (power), K11 GND (power), L2 GND (power), L8 GND (power), L12 GND (power), M5 GND (power), M7 GND (power), M9 GND (power), M11 GND (power), M15 GND (power), N8 GND (power), N10 GND (power), N12 GND (power), N18 GND (power), P1 GND (power), R4 GND (power), R14 GND (power), T7 GND (power), T17 GND (power), U10 GND (power), V3 GND (power), V13 GND (power)
part J pins: A5 IO_L3N_T0_DQS_AD5N_35 (io), A6 IO_L3P_T0_DQS_AD5P_35 (io), A13 IO_L9P_T1_DQS_AD3P_15 (io), A14 IO_L9N_T1_DQS_AD3N_15 (io), B4 IO_L7N_T1_AD6N_35 (io), B6 IO_L2N_T0_AD12N_35 (io), B7 IO_L2P_T0_AD12P_35 (io), B12 IO_L3N_T0_DQS_AD1N_15 (io), B13 IO_L2P_T0_AD8P_15 (io), B14 IO_L2N_T0_AD8N_15 (io), B16 IO_L7P_T1_AD2P_15 (io), B17 IO_L7N_T1_AD2N_15 (io), C4 IO_L7P_T1_AD6P_35 (io), C6 IO_L1N_T0_AD4N_36 (io), C7 IO_L1P_T0_AD4P_36 (io), C12 IO_L3P_T0_DQS_AD1P_15 (io), C14 IO_L1N_T0_AD0N_15 (io), D14 IO_L1P_T0_AD0P_15 (io)
part A text: BANK 14
part B text: BANK 15
part C text: BANK 16
part D text: BANK 34
part E text: BANK 35
part J text: ADC